# EAGLE library part 10VA (library trafo-amveco)
10 VA toroidal PC-mount transformer
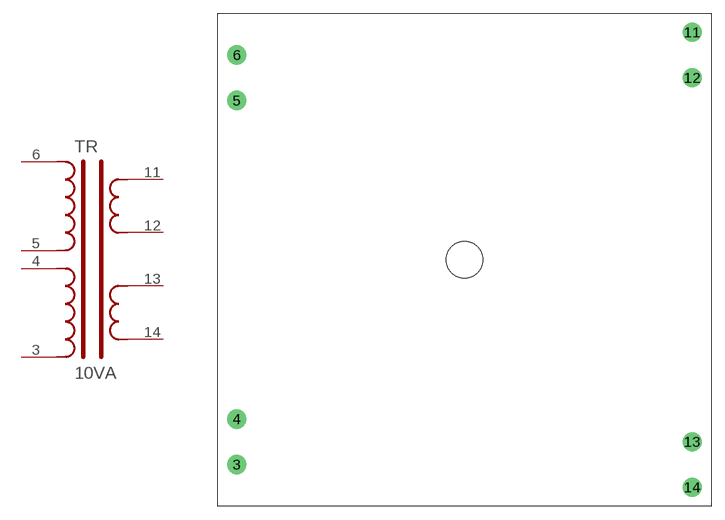
[diagram p2: symbol with the pads of 10VA-PC; footprint 10VA-PC]

Designator prefix TR

## 10VA  [10VA-PC]
3  3  pas
4  4  pas
5  5  pas
6  6  pas
11  11  pas
12  12  pas
13  13  pas
14  14  pas

## Footprint 10VA-PC (pad centres in mm)
AMVECO (a.k.a Talema) 10 VA PC-mount encapsulated toroidal transformer
drill 1.143 pad 2.159 round: 3 -25.4,-22.86; 4 -25.4,-17.78; 5 -25.4,17.78; 6 -25.4,22.86; 11 25.4,25.4; 12 25.4,20.32; 13 25.4,-20.32; 14 25.4,-25.4
hole 4.064 at 0,0